# Altium footprint library ToF.PcbLib: 5 footprints
Each footprint in its own frame and in the unit in brackets; x right, y up, seen from the top. Pads: shape width x height; smd on the part's side, far side on the other; paste and mask are expansions set on the pad; w line width, h text height; cw(c..) or ccw(c..) is an arc to the next point about the centre after c.
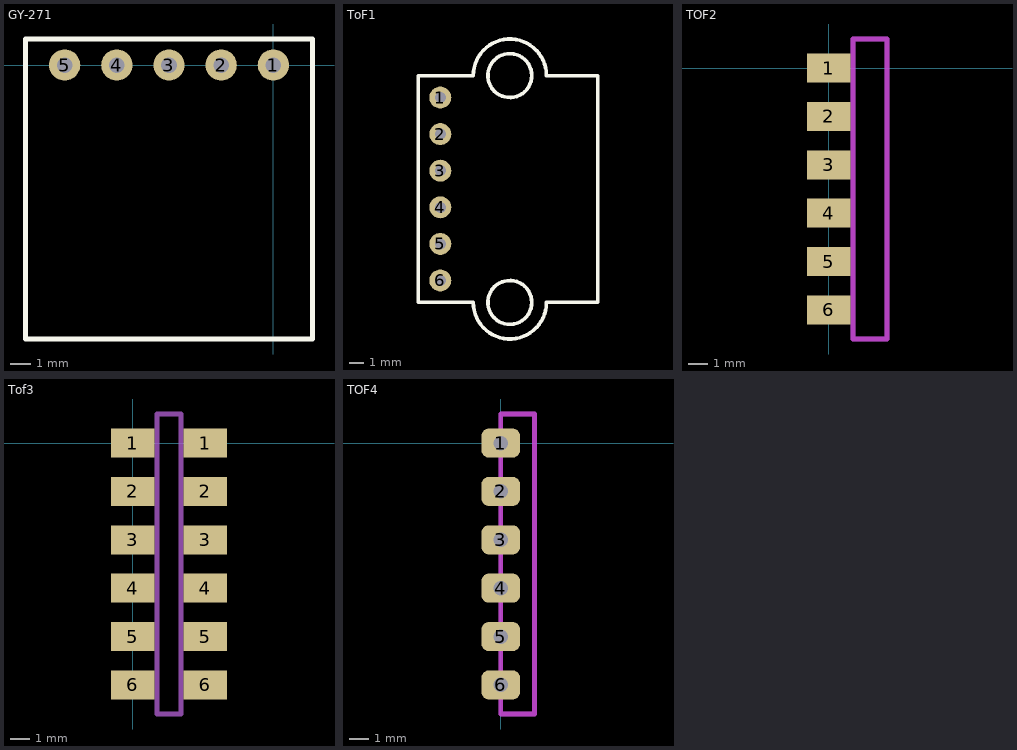
[diagram p0: the footprints below, top view; thin cyan lines are the x and y axes]

## GY-271 [mil]
pads (5):
  round 60 hole 30: 1(0,0) 2(-100,0) 3(-200,0) 4(-300,0) 5(-400,0)
Top Overlay:
  lines w10: -475,-525 75,-525 75,50 -475,50 -475,-525

## ToF1 [mil]
pads (6):
  round 60 hole 30: 1(300,1400) 2(300,1300) 3(300,1200) 4(300,1100) 5(300,1000) 6(300,900)
Top Overlay:
  circle w10: c490,840 r60
  circle w10: c490,1460 r60
  lines w10: 240,840 390,840 ccw(c490,840) 590,840 730,840 730,1460 590,1460 ccw(c490,1460) 390,1460 240,1460 240,840

## TOF2 [mil]
pads (6):
  rect 90x60 smd: 1(0,0) 2(0,-100) 3(0,-200) 4(0,-300) 5(0,-400) 6(0,-500)
Mechanical 1 keep-out:
  lines w10: 50,-560 120,-560 120,60 50,60 50,-560

## Tof3 [mil]
pads (12):
  rect 90x60 smd: 1(0,0) 1(150,0) 2(0,-100) 2(150,-100) 3(0,-200) 3(150,-200) 4(0,-300) 4(150,-300) 5(0,-400) 5(150,-400) 6(0,-500) 6(150,-500)
Mechanical 1:
  lines w10: 50,-560 100,-560 100,60 50,60 50,-560

## TOF4 [mil]
pads (6):
  rrect50% 80x60 hole 30: 1(0,0) 2(0,-100) 3(0,-200) 4(0,-300) 5(0,-400) 6(0,-500)
Mechanical 1 keep-out:
  lines w10: 0,-560 70,-560 70,60 0,60 0,-560